# EAGLE library part LM51581QRTERQ1 (library NIPCB)
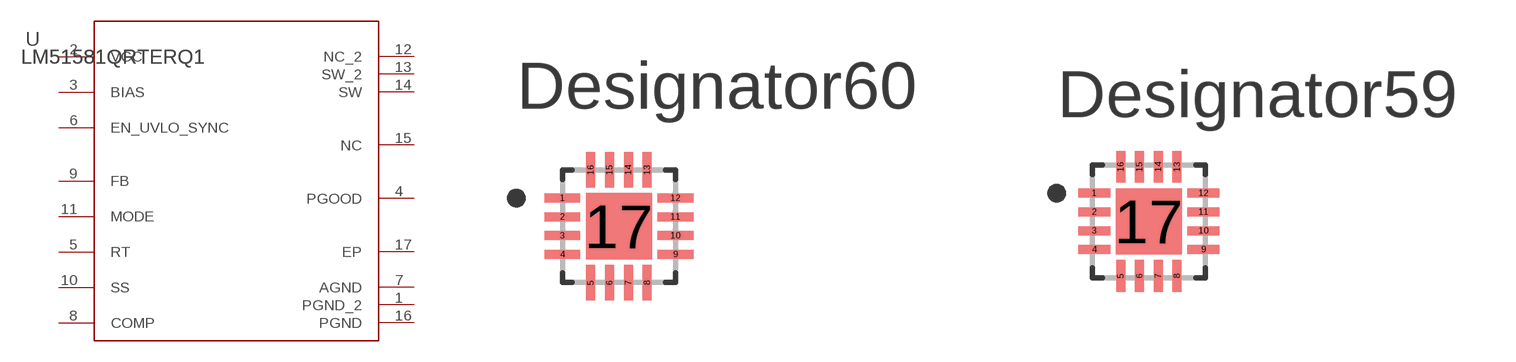
[diagram p15: symbol with the pads of RTE0016K-IPC_A; footprints RTE0016K-IPC_A, RTE0016K-IPC_B]

Designator prefix U

## LM51581QRTERQ1RTE0016K-IPC_A (COPYRIGHT: Copyright (C) 2024 Ultra Librarian. All rights reserved.; MANUFACTURER_PART_NUMBER: LM51581QRTERQ1; MFR_NAME: Texas Instruments; REFDES: RefDes; TYPE: TYPE)  [RTE0016K-IPC_A]
1  PGND_2  pwr
2  VCC  pas
3  BIAS  pwr
4  PGOOD  oc
5  RT  pas
6  EN_UVLO_SYNC  in
7  AGND  pwr
8  COMP  pas
9  FB  pas
10  SS  pas
11  MODE  pas
12  NC_2  pas
13  SW_2  pas
14  SW  pas
15  NC  pas
16  PGND  pwr
17  EP  pwr

## LM51581QRTERQ1RTE0016K-IPC_B (COPYRIGHT: Copyright (C) 2024 Ultra Librarian. All rights reserved.; MANUFACTURER_PART_NUMBER: LM51581QRTERQ1; MFR_NAME: Texas Instruments; REFDES: RefDes; TYPE: TYPE)  [RTE0016K-IPC_B]
Pads as for RTE0016K-IPC_A

## LM51581QRTERQ1RTE0016K-IPC_C (COPYRIGHT: Copyright (C) 2024 Ultra Librarian. All rights reserved.; MANUFACTURER_PART_NUMBER: LM51581QRTERQ1; MFR_NAME: Texas Instruments; REFDES: RefDes; TYPE: TYPE)  [RTE0016K-IPC_C]
Pads as for RTE0016K-IPC_A

## LM51581QRTERQ1RTE0016K-MFG (COPYRIGHT: Copyright (C) 2024 Ultra Librarian. All rights reserved.; MANUFACTURER_PART_NUMBER: LM51581QRTERQ1; MFR_NAME: Texas Instruments; REFDES: RefDes; TYPE: TYPE)  [RTE0016K-MFG]
Pads as for RTE0016K-IPC_A

## Footprint RTE0016K-IPC_A (pad centres in mm)
smd 0.949 x 0.239: 1 -1.505,0.75; 2 -1.505,0.25; 3 -1.505,-0.25; 4 -1.505,-0.75; 9 1.505,-0.75; 10 1.505,-0.25; 11 1.505,0.25; 12 1.505,0.75
smd 0.239 x 0.949: 5 -0.75,-1.505; 6 -0.25,-1.505; 7 0.25,-1.505; 8 0.75,-1.505; 13 0.75,1.505; 14 0.25,1.505; 15 -0.25,1.505; 16 -0.75,1.505
smd 1.76 x 1.76: 17 0,0

## Footprint RTE0016K-IPC_B (pad centres in mm)
smd 0.849 x 0.239: 1 -1.455,0.75; 2 -1.455,0.25; 3 -1.455,-0.25; 4 -1.455,-0.75; 9 1.455,-0.75; 10 1.455,-0.25; 11 1.455,0.25; 12 1.455,0.75
smd 0.239 x 0.849: 5 -0.75,-1.455; 6 -0.25,-1.455; 7 0.25,-1.455; 8 0.75,-1.455; 13 0.75,1.455; 14 0.25,1.455; 15 -0.25,1.455; 16 -0.75,1.455
smd 1.76 x 1.76: 17 0,0

## Footprint RTE0016K-IPC_C (pad centres in mm)
smd 0.749 x 0.239: 1 -1.405,0.75; 2 -1.405,0.25; 3 -1.405,-0.25; 4 -1.405,-0.75; 9 1.405,-0.75; 10 1.405,-0.25; 11 1.405,0.25; 12 1.405,0.75
smd 0.239 x 0.749: 5 -0.75,-1.405; 6 -0.25,-1.405; 7 0.25,-1.405; 8 0.75,-1.405; 13 0.75,1.405; 14 0.25,1.405; 15 -0.25,1.405; 16 -0.75,1.405
smd 1.76 x 1.76: 17 0,0

## Footprint RTE0016K-MFG (pad centres in mm)
smd 0.6 x 0.24: 1 -1.4,0.75; 2 -1.4,0.25; 3 -1.4,-0.25; 4 -1.4,-0.75; 9 1.4,-0.75; 10 1.4,-0.25; 11 1.4,0.25; 12 1.4,0.75
smd 0.24 x 0.6: 5 -0.75,-1.4; 6 -0.25,-1.4; 7 0.25,-1.4; 8 0.75,-1.4; 13 0.75,1.4; 14 0.25,1.4; 15 -0.25,1.4; 16 -0.75,1.4
smd 1.66 x 1.66: 17 0,0